# Altium footprint library IC.PcbLib: 13 footprints
Each footprint in its own frame and in the unit in brackets; x right, y up, seen from the top. Pads: shape width x height; smd on the part's side, far side on the other; paste and mask are expansions set on the pad; w line width, h text height; cw(c..) or ccw(c..) is an arc to the next point about the centre after c.
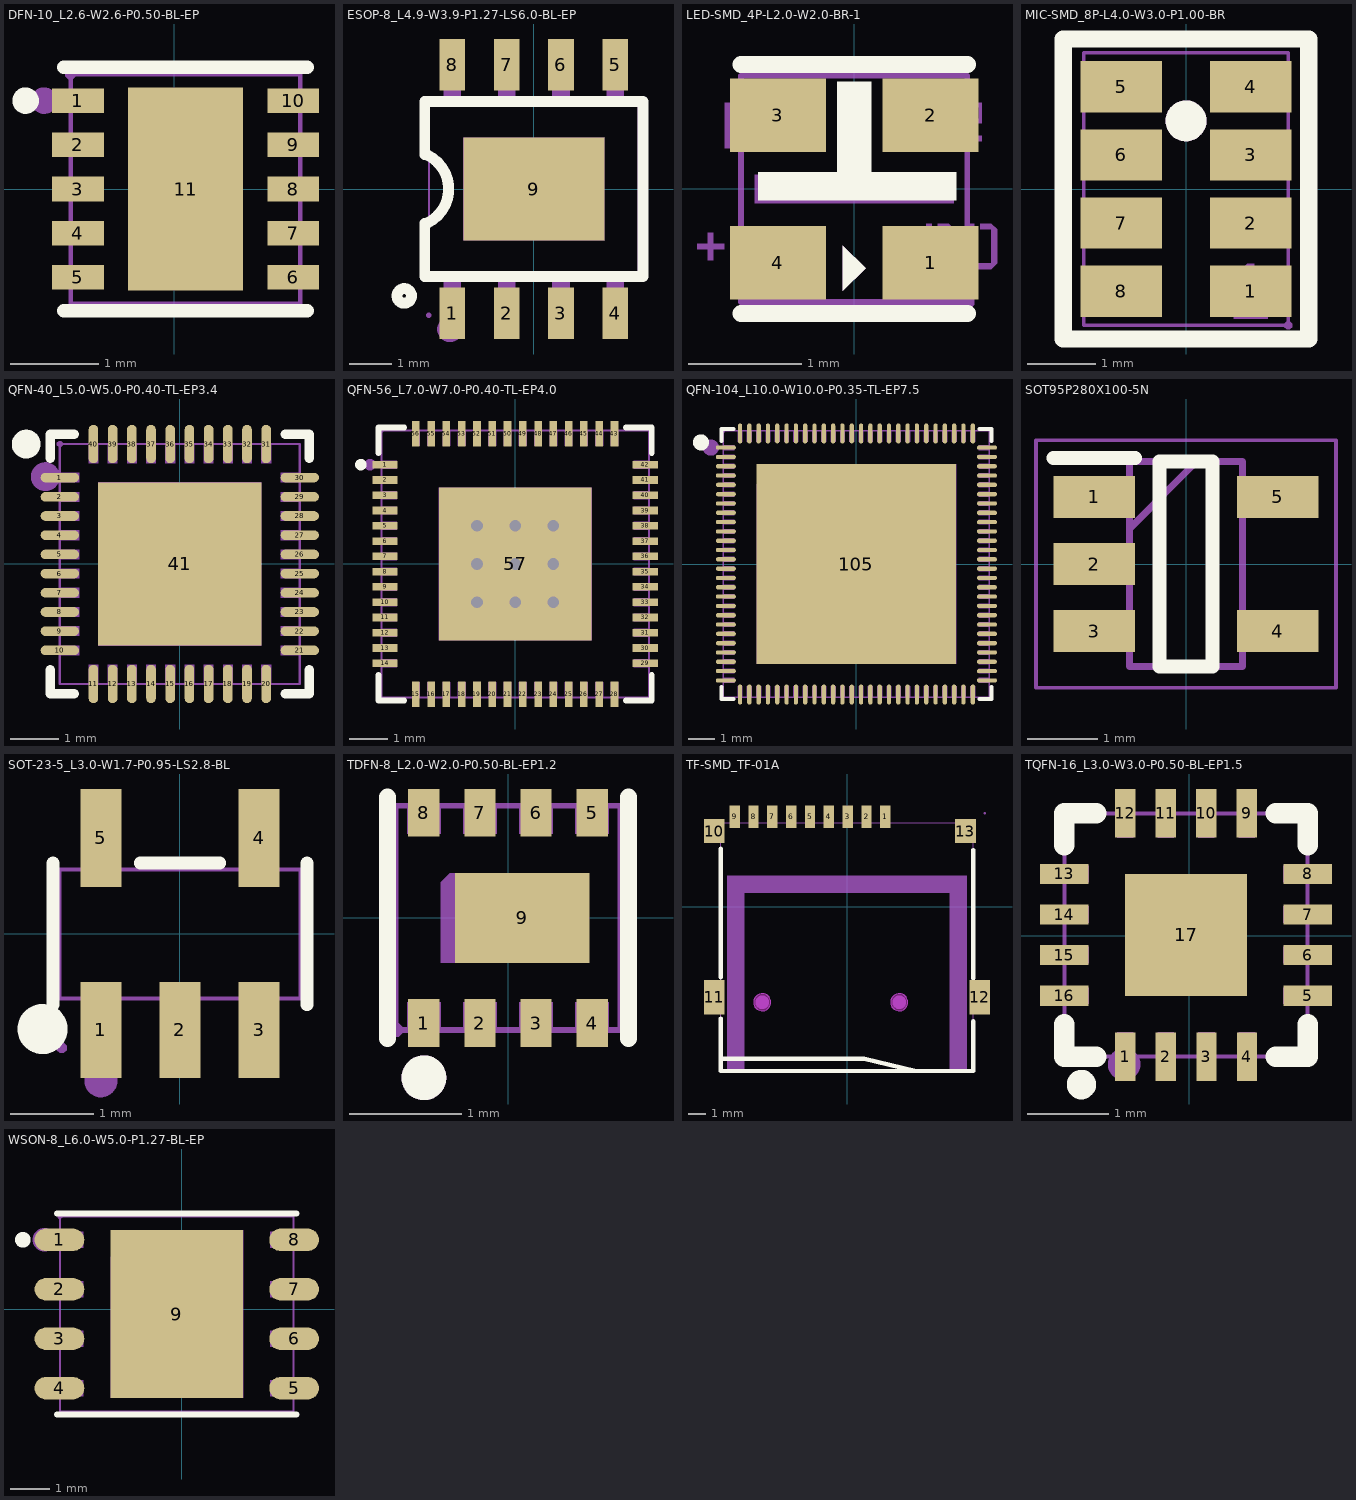
[diagram p0: the footprints below, top view; thin cyan lines are the x and y axes]

## DFN-10_L2.6-W2.6-P0.50-BL-EP [mm]
pads (11):
  rect 0.585x0.28 smd: 1(-1.09,1) 2(-1.09,0.5) 3(-1.09,0) 4(-1.09,-0.5) 5(-1.09,-1) 6(1.344,-1) 7(1.344,-0.5) 8(1.344,0) 9(1.344,0.5) 10(1.344,1)
  rect 1.3x2.3 smd: 11(0.127,0)
Top Overlay:
  circle w0.15: c-1.683,1 r0.075
  lines w0.152: -1.249,-1.376 1.503,-1.376 ; -1.249,1.376 1.503,1.376
Mechanical 6:
  circle w0.15: c-1.473,1 r0.075
Mechanical 15:
  region: -0.367,1.063 0.744,1.063 0.744,-1.063 -0.49,-1.063 -0.49,0.939
  region: 1.427,1.125 1.077,1.125 1.077,0.875 1.427,0.875
  region: 1.427,0.625 1.077,0.625 1.077,0.375 1.427,0.375
  region: 1.427,0.125 1.077,0.125 1.077,-0.125 1.427,-0.125
  region: 1.427,-0.375 1.077,-0.375 1.077,-0.625 1.427,-0.625
  region: 1.427,-0.875 1.077,-0.875 1.077,-1.125 1.427,-1.125
  region: -1.173,-0.875 -0.823,-0.875 -0.823,-1.125 -1.173,-1.125
  region: -1.173,-0.375 -0.823,-0.375 -0.823,-0.625 -1.173,-0.625
  region: -1.173,0.125 -0.823,0.125 -0.823,-0.125 -1.173,-0.125
  region: -1.173,0.625 -0.823,0.625 -0.823,0.375 -1.173,0.375
  region: -1.173,1.125 -0.823,1.125 -0.823,0.875 -1.173,0.875
  region: -1.173,1.24 -1.198,1.24 -1.233,1.275 -1.233,1.325 -1.198,1.36 -1.173,1.36 -1.148,1.36 -1.113,1.325 -1.113,1.275 -1.148,1.24 -1.173,1.24
  lines w0.051: -1.173,-1.3 -1.173,1.3 1.427,1.3 1.427,-1.3 -1.173,-1.3
3D body "PCF85063ATL_1,118.stp": height 0.5, standoff 0, extent -1.223,-1.3 1.477,1.3

## ESOP-8_L4.9-W3.9-P1.27-LS6.0-BL-EP [mm]
pads (9):
  rect 0.6x1.2 smd: 1(-1.905,-2.908) 2(-0.635,-2.908) 3(0.635,-2.908) 4(1.905,-2.908) 5(1.905,2.908) 6(0.635,2.908) 7(-0.635,2.908) 8(-1.905,2.908)
  rect 3.3x2.4 smd: 9(0,0)
Top Overlay:
  circle w0.254: c-3.03,-2.5 r0.17
  lines w0.254: -2.55,-0.8 -2.55,-2.05 2.55,-2.05 2.55,2.05 -2.55,2.05 -2.55,0.8 ; -2.5,-0.8 ccw(c-2.875,0) -2.5,0.8
Mechanical 6:
  circle w0.3: c-1.96,-3.28 r0.15
Mechanical 15:
  region: 1.65,-1.2 -1.65,-1.2 -1.65,1.2 1.65,1.2
  region: 1.705,-2.95 1.705,-2.3 2.105,-2.3 2.105,-2.95
  region: 1.705,-2.31 1.705,-1.94 2.105,-1.94 2.105,-2.31
  region: 0.435,-2.95 0.435,-2.3 0.835,-2.3 0.835,-2.95
  region: 0.435,-2.31 0.435,-1.94 0.835,-1.94 0.835,-2.31
  region: -0.835,-2.95 -0.835,-2.3 -0.435,-2.3 -0.435,-2.95
  region: -0.835,-2.31 -0.835,-1.94 -0.435,-1.94 -0.435,-2.31
  region: -2.105,-2.95 -2.105,-2.3 -1.705,-2.3 -1.705,-2.95
  region: -2.105,-2.31 -2.105,-1.94 -1.705,-1.94 -1.705,-2.31
  region: 1.705,2.3 1.705,2.95 2.105,2.95 2.105,2.3
  region: 1.705,1.94 1.705,2.31 2.105,2.31 2.105,1.94
  region: 0.435,2.3 0.435,2.95 0.835,2.95 0.835,2.3
  region: 0.435,1.94 0.435,2.31 0.835,2.31 0.835,1.94
  region: -0.835,2.3 -0.835,2.95 -0.435,2.95 -0.435,2.3
  region: -0.835,1.94 -0.835,2.31 -0.435,2.31 -0.435,1.94
  region: -2.105,2.3 -2.105,2.95 -1.705,2.95 -1.705,2.3
  region: -2.105,1.94 -2.105,2.31 -1.705,2.31 -1.705,1.94
  region: -2.394,-2.95 -2.394,-2.975 -2.429,-3.01 -2.479,-3.01 -2.514,-2.975 -2.514,-2.95 -2.514,-2.925 -2.479,-2.89 -2.429,-2.89 -2.394,-2.925 -2.394,-2.95
  lines w0.051: -2.45,-1.95 -2.45,1.95 2.45,1.95 2.45,-1.95 -2.45,-1.95
3D body "IP5306.STEP": height 1.65, standoff 0, extent -2.413,-3 2.487,3

## LED-SMD_4P-L2.0-W2.0-BR-1 [mm]
pads (4):
  rect 0.85x0.65 smd paste+0 mask+0.05: 1(0.675,-0.65) 2(0.675,0.65) 3(-0.675,0.65) 4(-0.675,-0.65)
Top Overlay:
  region: -0.15,0.15 -0.15,0.95 0.15,0.95 0.15,0.1 -0.15,0.1
  region: -0.85,0.15 -0.85,-0.1 0.9,-0.1 0.9,0.15
  region: -0.1,-0.5 -0.1,-0.9 0.1,-0.7
  lines w0.152: -1,-1.1 1,-1.1 ; -1,1.1 1,1.1
Mechanical 6:
  region: -0.1,-0.5 -0.1,-0.9 0.1,-0.7
  region: -0.127,0.056 0.127,0.056 0.127,0.945 -0.127,0.945
  region: 0.889,0.762 1.129,0.762 1.129,0.582 0.919,0.582 0.919,0.472 1.129,0.472 1.129,0.422 0.889,0.422 0.879,0.422 0.879,0.432 0.879,0.622 1.099,0.622 1.099,0.722 0.879,0.722 0.879,0.762
  region: 0.529,0.477 0.769,0.477 0.769,0.427 0.529,0.427
  region: -1.295,-0.628 -1.295,-0.388 -1.245,-0.388 -1.245,-0.628
  region: -1.39,-0.483 -1.15,-0.483 -1.15,-0.533 -1.39,-0.533
  region: -0.88,0.125 0.88,0.125 0.88,-0.125 -0.88,-0.125
  region: -1,-0.333 -1,-0.633 -0.85,-0.633 -0.85,-0.733 -0.8,-0.733 -0.8,-0.633 -0.7,-0.633 -0.7,-0.583 -0.8,-0.583 -0.8,-0.433 -0.85,-0.433 -0.85,-0.583 -0.95,-0.583 -0.95,-0.333
  region: 1.012,-0.308 0.962,-0.358 0.962,-0.658 1.012,-0.708 1.212,-0.708 1.262,-0.658 1.262,-0.358 1.212,-0.308 1.112,-0.308 1.112,-0.358 1.212,-0.358 1.212,-0.658 1.012,-0.658 1.012,-0.358 1.062,-0.358 1.062,-0.308
  region: 0.637,-0.308 0.637,-0.708 0.787,-0.708 0.837,-0.708 0.887,-0.658 0.887,-0.358 0.837,-0.308 0.737,-0.308 0.737,-0.358 0.837,-0.358 0.837,-0.658 0.687,-0.658 0.687,-0.308
  region: -1.143,0.762 -1.143,0.362 -0.993,0.362 -0.943,0.362 -0.893,0.412 -0.893,0.712 -0.943,0.762 -1.043,0.762 -1.043,0.712 -0.943,0.712 -0.943,0.412 -1.093,0.412 -1.093,0.762
  region: -0.768,0.362 -0.768,0.412 -0.718,0.412 -0.718,0.712 -0.768,0.712 -0.768,0.762 -0.618,0.762 -0.618,0.712 -0.668,0.712 -0.668,0.412 -0.618,0.412 -0.618,0.362
Mechanical 15:
  region: -0.3,-0.95 -1,-0.95 -1,-0.35 -0.3,-0.35
  region: -0.3,0.35 -1,0.35 -1,0.95 -0.3,0.95
  region: 1,0.35 0.3,0.35 0.3,0.95 1,0.95
  region: 1,-0.95 0.3,-0.95 0.3,-0.35 1,-0.35
  region: 1.06,-1 1.06,-1.025 1.025,-1.06 0.975,-1.06 0.94,-1.025 0.94,-1 0.94,-0.975 0.975,-0.94 1.025,-0.94 1.06,-0.975 1.06,-1
  lines w0.051: -1,-1 -1,1 1,1 1,-1 -1,-1
3D body "WS2812-0807.STEP": height 0.8, standoff -0.04, extent -1,-0.9 1,0.9

## MIC-SMD_8P-L4.0-W3.0-P1.00-BR [mm]
pads (8):
  rect 1.2x0.75 smd paste+0 mask+0.05: 1(0.95,-1.5) 2(0.95,-0.5) 3(0.95,0.5) 4(0.95,1.5) 5(-0.95,1.5) 6(-0.95,0.5) 7(-0.95,-0.5) 8(-0.95,-1.5)
Top Overlay:
  circle w0.3: c0,1 r0.15
  lines w0.254: -1.8,-2.2 1.8,-2.2 1.8,2.2 -1.8,2.2 -1.8,-2.2
Mechanical 6:
  circle w0.3: c0,1 r0.15
  region: 0.8,-1.3 0.7,-1.3 0.9,-1.1 1,-1.1 1,-1.8 1.2,-1.8 1.2,-1.9 0.7,-1.9 0.7,-1.8 0.9,-1.8 0.9,-1.3
Mechanical 15:
  region: 1.56,-2 1.56,-2.025 1.525,-2.06 1.475,-2.06 1.44,-2.025 1.44,-2 1.44,-1.975 1.475,-1.94 1.525,-1.94 1.56,-1.975 1.56,-2
  region: -0.5,-1.2 -1.4,-1.2 -1.4,-1.8 -0.5,-1.8
  region: -0.5,-0.2 -1.4,-0.2 -1.4,-0.8 -0.5,-0.8
  region: -0.5,0.8 -1.4,0.8 -1.4,0.2 -0.5,0.2
  region: -0.5,1.8 -1.4,1.8 -1.4,1.2 -0.5,1.2
  region: 1.4,1.8 0.5,1.8 0.5,1.2 1.4,1.2
  region: 1.4,0.8 0.5,0.8 0.5,0.2 1.4,0.2
  region: 1.4,-0.2 0.5,-0.2 0.5,-0.8 1.4,-0.8
  region: 1.4,-1.2 0.5,-1.2 0.5,-1.8 1.4,-1.8
  lines w0.051: -1.5,-2 -1.5,2 1.5,2 1.5,-2 -1.5,-2
3D body "MSM261S4030.STEP": height 0.97, standoff -0.05, extent -1.518,-2.024 1.482,1.976

## QFN-40_L5.0-W5.0-P0.40-TL-EP3.4 [mm]
pads (41):
  oval 0.8x0.2 smd paste-100 mask+0.05: 1(-2.5,1.8) 2(-2.5,1.4) 3(-2.5,1) 4(-2.5,0.6) 5(-2.5,0.2) 6(-2.5,-0.2) 7(-2.5,-0.6) 8(-2.5,-1) 9(-2.5,-1.4) 10(-2.5,-1.8) 21(2.5,-1.8) 22(2.5,-1.4) 23(2.5,-1) 24(2.5,-0.6) 25(2.5,-0.2) 26(2.5,0.2) 27(2.5,0.6) 28(2.5,1) 29(2.5,1.4) 30(2.5,1.8)
  oval 0.2x0.8 smd paste-100 mask+0.05: 11(-1.8,-2.5) 12(-1.4,-2.5) 13(-1,-2.5) 14(-0.6,-2.5) 15(-0.2,-2.5) 16(0.2,-2.5) 17(0.6,-2.5) 18(1,-2.5) 19(1.4,-2.5) 20(1.8,-2.5) 31(1.8,2.5) 32(1.4,2.5) 33(1,2.5) 34(0.6,2.5) 35(0.2,2.5) 36(-0.2,2.5) 37(-0.6,2.5) 38(-1,2.5) 39(-1.4,2.5) 40(-1.8,2.5)
  rect 3.4x3.4 smd paste-100 mask+0.05: 41(0,0)
Top Overlay:
  lines w0.2: -2.7,-2.2 -2.7,-2.7 -2.2,-2.7 ; -2.7,2.2 -2.7,2.7 -2.2,2.7 ; 2.2,-2.7 2.7,-2.7 2.7,-2.2 ; 2.2,2.7 2.7,2.7 2.7,2.2
  lines w0.3: -3.051,2.497 cw(c-3.201,2.498) -3.351,2.498 cw(c-3.201,2.498) -3.051,2.499
Top Paste:
  drawing of 41 lines, arcs and shapes, not listed
Mechanical 6:
  circle w0.3: c-2.802,1.82 r0.15
Mechanical 15:
  drawing of 46 lines, arcs and shapes, not listed
3D body: height 0.38, standoff 0, extent -2.54,-2.54 2.54,2.54

## QFN-56_L7.0-W7.0-P0.40-TL-EP4.0 [mm]
pads (57):
  rect 0.665x0.2 smd paste-100 mask+0.051: 1(-3.408,2.6) 2(-3.408,2.2) 3(-3.408,1.8) 4(-3.408,1.4) 5(-3.408,1) 6(-3.408,0.6) 7(-3.408,0.2) 8(-3.408,-0.2) 9(-3.408,-0.6) 10(-3.408,-1) 11(-3.408,-1.4) 12(-3.408,-1.8) 13(-3.408,-2.2) 14(-3.408,-2.6) 29(3.407,-2.6) 30(3.407,-2.2) 31(3.407,-1.8) 32(3.407,-1.4) 33(3.407,-1) 34(3.407,-0.6) 35(3.407,-0.2) 36(3.407,0.2) 37(3.407,0.6) 38(3.407,1) 39(3.407,1.4) 40(3.407,1.8) 41(3.407,2.2) 42(3.407,2.6)
  rect 0.2x0.665 smd paste-100 mask+0.051: 15(-2.6,-3.408) 16(-2.2,-3.408) 17(-1.8,-3.408) 18(-1.4,-3.408) 19(-1,-3.408) 20(-0.6,-3.408) 21(-0.2,-3.408) 22(0.2,-3.408) 23(0.6,-3.408) 24(1,-3.408) 25(1.4,-3.408) 26(1.8,-3.408) 27(2.2,-3.408) 28(2.6,-3.408) 43(2.6,3.407) 44(2.2,3.407) 45(1.8,3.407) 46(1.4,3.407) 47(1,3.407) 48(0.6,3.407) 49(0.2,3.407) 50(-0.2,3.407) 51(-0.6,3.407) 52(-1,3.407) 53(-1.4,3.407) 54(-1.8,3.407) 55(-2.2,3.407) 56(-2.6,3.407)
  rect 4x4 smd paste-100 mask+0.051: 57(0,0)
via 1,0 diameter 0.61 hole 0.305
via 1,1 diameter 0.61 hole 0.305
via -1,0 diameter 0.61 hole 0.305
via -1,1 diameter 0.61 hole 0.305
via 1,-1 diameter 0.61 hole 0.305
via -1,-1 diameter 0.61 hole 0.305
via 0,0 diameter 0.61 hole 0.305
via 0.001,-1 diameter 0.61 hole 0.305
via 0,1 diameter 0.61 hole 0.305
Top Overlay:
  circle w0.15: c-4.04,2.6 r0.075
  lines w0.152: -3.576,-2.903 -3.576,-3.576 -2.903,-3.576 ; -3.576,2.902 -3.576,3.576 -2.903,3.576 ; 2.902,-3.576 3.576,-3.576 3.576,-2.903 ; 2.902,3.576 3.576,3.576 3.576,2.902
Top Paste:
  drawing of 57 lines, arcs and shapes, not listed
Mechanical 6:
  circle w0.15: c-3.8,2.6 r0.075
Mechanical 15:
  drawing of 62 lines, arcs and shapes, not listed
3D body "ESP32-S3.stp": height 1.02, standoff 0, extent -3.5,-3.5 3.5,3.5

## QFN-104_L10.0-W10.0-P0.35-TL-EP7.5 [mm]
pads (105):
  oval 0.755x0.16 smd: 1(-4.908,4.375) 2(-4.908,4.025) 3(-4.908,3.675) 4(-4.908,3.325) 5(-4.908,2.975) 6(-4.908,2.625) 7(-4.908,2.275) 8(-4.908,1.925) 9(-4.908,1.575) 10(-4.908,1.225) 11(-4.908,0.875) 12(-4.908,0.525) 13(-4.908,0.175) 14(-4.908,-0.175) 15(-4.908,-0.525) 16(-4.908,-0.875) 17(-4.908,-1.225) 18(-4.908,-1.575) 19(-4.908,-1.925) 20(-4.908,-2.275) 21(-4.908,-2.625) 22(-4.908,-2.975) 23(-4.908,-3.325) 24(-4.908,-3.675) 25(-4.908,-4.025) 26(-4.908,-4.375) 53(4.908,-4.375) 54(4.908,-4.025) 55(4.908,-3.675) 56(4.908,-3.325) 57(4.908,-2.975) 58(4.908,-2.625) 59(4.908,-2.275) 60(4.908,-1.925) 61(4.908,-1.575) 62(4.908,-1.225) 63(4.908,-0.875) 64(4.908,-0.525) 65(4.908,-0.175) 66(4.908,0.175) 67(4.908,0.525) 68(4.908,0.875) 69(4.908,1.225) 70(4.908,1.575) 71(4.908,1.925) 72(4.908,2.275) 73(4.908,2.625) 74(4.908,2.975) 75(4.908,3.325) 76(4.908,3.675) 77(4.908,4.025) 78(4.908,4.375)
  oval 0.16x0.755 smd: 27(-4.375,-4.908) 28(-4.025,-4.908) 29(-3.675,-4.908) 30(-3.325,-4.908) 31(-2.975,-4.908) 32(-2.625,-4.908) 33(-2.275,-4.908) 34(-1.925,-4.908) 35(-1.575,-4.908) 36(-1.225,-4.908) 37(-0.875,-4.908) 38(-0.525,-4.908) 39(-0.175,-4.908) 40(0.175,-4.908) 41(0.525,-4.908) 42(0.875,-4.908) 43(1.225,-4.908) 44(1.575,-4.908) 45(1.925,-4.908) 46(2.275,-4.908) 47(2.625,-4.908) 48(2.975,-4.908) 49(3.325,-4.908) 50(3.675,-4.908) 51(4.025,-4.908) 52(4.375,-4.908) 79(4.375,4.908) 80(4.025,4.908) 81(3.675,4.908) 82(3.325,4.908) 83(2.975,4.908) 84(2.625,4.908) 85(2.275,4.908) 86(1.925,4.908) 87(1.575,4.908) 88(1.225,4.908) 89(0.875,4.908) 90(0.525,4.908) 91(0.175,4.908) 92(-0.175,4.908) 93(-0.525,4.908) 94(-0.875,4.908) 95(-1.225,4.908) 96(-1.575,4.908) 97(-1.925,4.908) 98(-2.275,4.908) 99(-2.625,4.908) 100(-2.975,4.908) 101(-3.325,4.908) 102(-3.675,4.908) 103(-4.025,4.908) 104(-4.375,4.908)
  rect 7.5x7.5 smd: 105(0,0)
Top Overlay:
  circle w0.3: c-5.842,4.572 r0.15
  lines w0.152: -5.076,-4.625 -5.076,-5.076 -4.625,-5.076 ; -5.076,4.625 -5.076,5.076 -4.625,5.076 ; 4.625,-5.076 5.076,-5.076 5.076,-4.625 ; 4.625,5.076 5.076,5.076 5.076,4.625
Mechanical 6:
  circle w0.3: c-5.471,4.375 r0.15
Mechanical 15:
  drawing of 110 lines, arcs and shapes, not listed
3D body "QFN-104_10x10mm_ESP32P4.step": height 0.76, standoff -0.03, extent -5.01,-5.01 5.01,5.01

## SOT95P280X100-5N [mm]
pads (5):
  rect 1.15x0.6 smd: 1(-1.3,0.95) 2(-1.3,0) 3(-1.3,-0.95) 4(1.3,-0.95) 5(1.3,0.95)
Top Overlay:
  lines w0.2: -1.875,1.5 -0.725,1.5 ; -0.375,-1.45 -0.375,1.45 0.375,1.45 0.375,-1.45 -0.375,-1.45
Mechanical 15:
  lines w0.1: -0.8,0.5 0.15,1.45 ; -0.8,-1.45 -0.8,1.45 0.8,1.45 0.8,-1.45 -0.8,-1.45
Mechanical 20:
  lines w0.05: -2.125,-1.75 -2.125,1.75 2.125,1.75 2.125,-1.75 -2.125,-1.75
3D body "MP3302DJ-LF-Z.stp": height 1, standoff 0, extent -1.403,-1.45 1.397,1.45

## SOT-23-5_L3.0-W1.7-P0.95-LS2.8-BL [mm]
pads (5):
  rect 0.49x1.157 smd: 1(-0.95,-1.154) 2(0,-1.154) 3(0.95,-1.154)
  rect 0.49x1.175 smd: 4(0.95,1.154) 5(-0.95,1.154)
Top Overlay:
  circle w0.3: c-1.651,-1.143 r0.15
  lines w0.152: -1.526,-0.851 -1.526,0.851 ; -0.476,0.851 0.476,0.851 ; 1.526,-0.851 1.526,0.851
Mechanical 6:
  circle w0.2: c-0.95,-1.763 r0.1
Mechanical 15:
  region: -1.36,-1.37 -1.36,-1.395 -1.395,-1.43 -1.445,-1.43 -1.48,-1.395 -1.48,-1.37 -1.48,-1.345 -1.445,-1.31 -1.395,-1.31 -1.36,-1.345 -1.36,-1.37
  region: -1.125,0.74 -1.125,1.01 -0.775,1.01 -0.775,0.74
  region: -1.125,1 -1.125,1.4 -0.775,1.4 -0.775,1
  region: 0.775,0.74 0.775,1.01 1.125,1.01 1.125,0.74
  region: 0.775,1 0.775,1.4 1.125,1.4 1.125,1
  region: 0.775,-1.01 0.775,-0.74 1.125,-0.74 1.125,-1.01
  region: 0.775,-1.4 0.775,-1 1.125,-1 1.125,-1.4
  region: -0.175,-1.01 -0.175,-0.74 0.175,-0.74 0.175,-1.01
  region: -0.175,-1.4 -0.175,-1 0.175,-1 0.175,-1.4
  region: -1.125,-1.01 -1.125,-0.74 -0.775,-0.74 -0.775,-1.01
  region: -1.125,-1.4 -1.125,-1 -0.775,-1 -0.775,-1.4
  lines w0.051: -1.45,-0.775 1.45,-0.775 1.45,0.775 -1.45,0.775 -1.45,-0.775
3D body "TLV62569DBVT.stp": height 1.2, standoff 0, extent -1.45,-1.4 1.45,1.4

## TDFN-8_L2.0-W2.0-P0.50-BL-EP1.2 [mm]
pads (9):
  rect 0.28x0.425 smd: 1(-0.75,-0.938) 2(-0.25,-0.938) 3(0.25,-0.938) 4(0.75,-0.938) 5(0.75,0.938) 6(0.25,0.938) 7(-0.25,0.938) 8(-0.75,0.938)
  rect 1.2x0.8 smd: 9(0.127,0)
Top Overlay:
  circle w0.2: c-0.75,-1.426 r0.1
  lines w0.152: -1.076,-1.076 -1.076,0.573 ; -1.076,-0.573 -1.076,1.076 ; 1.076,-1.076 1.076,0.573 ; 1.076,-0.573 1.076,1.076
Mechanical 6:
  circle w0.2: c-0.75,-1.426 r0.1
Mechanical 15:
  region: -0.52,0.4 0.6,0.4 0.6,-0.4 -0.6,-0.4 -0.6,0.32
  region: -0.9,1 -0.6,1 -0.6,0.75 -0.9,0.75
  region: -0.4,1 -0.1,1 -0.1,0.75 -0.4,0.75
  region: 0.1,1 0.4,1 0.4,0.75 0.1,0.75
  region: 0.6,1 0.9,1 0.9,0.75 0.6,0.75
  region: 0.6,-1 0.9,-1 0.9,-0.75 0.6,-0.75
  region: 0.1,-1 0.4,-1 0.4,-0.75 0.1,-0.75
  region: -0.4,-1 -0.1,-1 -0.1,-0.75 -0.4,-0.75
  region: -0.9,-1 -0.6,-1 -0.6,-0.75 -0.9,-0.75
  region: -0.94,-1 -0.94,-1.025 -0.975,-1.06 -1.025,-1.06 -1.06,-1.025 -1.06,-1 -1.06,-0.975 -1.025,-0.94 -0.975,-0.94 -0.94,-0.975 -0.94,-1
  lines w0.051: -1,-1 -1,1 1,1 1,-1 -1,-1
3D body "MAX17048G+T10.stp": height 0.8, standoff 0, extent -1,-1.05 1,1.05

## TF-SMD_TF-01A [mm]
pads (13):
  rect 0.6x1.3 smd: 1(2.24,5.276) 2(1.14,5.276) 3(0.04,5.276) 4(-1.06,5.276) 5(-2.16,5.276) 6(-3.26,5.276) 7(-4.36,5.276) 8(-5.46,5.276) 9(-6.56,5.276)
  rect 1.2x1.4 smd: 10(-7.76,4.426) 13(6.92,4.426)
  rect 1.2x2 smd: 11(-7.76,-5.276) 12(7.76,-5.276)
Top Overlay:
  lines w0.254: -7.366,-9.091 -7.366,-8.866 1,-8.866 3.937,-9.563 ; -7.366,-6.516 -7.366,-9.576 7.366,-9.576 7.366,-6.666 ; -7.366,-4.103 -7.366,3.406 ; 7.366,-4.167 7.366,3.326
Keep-Out Layer:
  board cut-out: 3.55,-5.566 3.55,-5.666 3.474,-5.849 3.333,-5.99 3.149,-6.066 2.951,-6.066 2.767,-5.99 2.626,-5.849 2.55,-5.666 2.55,-5.566 2.55,-5.467 2.626,-5.283 2.767,-5.142 2.951,-5.066 3.149,-5.066 3.333,-5.142 3.474,-5.283 3.55,-5.467 3.55,-5.566
  board cut-out: -4.45,-5.566 -4.45,-5.666 -4.526,-5.849 -4.667,-5.99 -4.85,-6.066 -5.049,-6.066 -5.233,-5.99 -5.374,-5.849 -5.45,-5.666 -5.45,-5.566 -5.45,-5.467 -5.374,-5.283 -5.233,-5.142 -5.049,-5.066 -4.85,-5.066 -4.667,-5.142 -4.526,-5.283 -4.45,-5.467 -4.45,-5.566
Keep-Out Layer:
  circle w0.025: c3.05,-5.566 r0.5
  circle w0.025: c-4.95,-5.566 r0.5
  region: 3.55,-5.566 3.55,-5.666 3.474,-5.849 3.333,-5.99 3.149,-6.066 2.951,-6.066 2.767,-5.99 2.626,-5.849 2.55,-5.666 2.55,-5.566 2.55,-5.467 2.626,-5.283 2.767,-5.142 2.951,-5.066 3.149,-5.066 3.333,-5.142 3.474,-5.283 3.55,-5.467 3.55,-5.566
  region: -4.45,-5.566 -4.45,-5.666 -4.526,-5.849 -4.667,-5.99 -4.85,-6.066 -5.049,-6.066 -5.233,-5.99 -5.374,-5.849 -5.45,-5.666 -5.45,-5.566 -5.45,-5.467 -5.374,-5.283 -5.233,-5.142 -5.049,-5.066 -4.85,-5.066 -4.667,-5.142 -4.526,-5.283 -4.45,-5.467 -4.45,-5.566
Mechanical 1:
  circle w0.025: c3.05,-5.566 r0.5
  circle w0.025: c-4.95,-5.566 r0.5
Mechanical 6:
  circle w0.4: c-4.95,-5.566 r0.2
  circle w0.4: c3.05,-5.566 r0.2
  region: -6,1.834 6,1.834 6,0.834 -6,0.834
  region: 7,-9.666 7,1.834 6,1.834 6,-9.666
  region: -7,-9.666 -7,1.834 -6,1.834 -6,-9.666
Mechanical 15:
  region: -6.745,4.924 -6.745,5.474 -6.375,5.474 -6.375,4.924
  region: 6.66,4.926 7.31,4.926 7.31,3.926 6.66,3.926
  region: -8.05,-4.476 -7.35,-4.476 -7.35,-6.076 -8.05,-6.076
  region: 7.35,-6.076 7.35,-4.476 8.05,-4.476 8.05,-6.076
  region: -7.95,3.926 -7.95,4.926 -7.25,4.926 -7.25,3.926
  region: -5.645,4.924 -5.645,5.474 -5.275,5.474 -5.275,4.924
  region: -4.545,4.924 -4.545,5.474 -4.175,5.474 -4.175,4.924
  region: -3.445,4.924 -3.445,5.474 -3.075,5.474 -3.075,4.924
  region: -2.345,4.924 -2.345,5.474 -1.975,5.474 -1.975,4.924
  region: -1.245,4.924 -1.245,5.474 -0.875,5.474 -0.875,4.924
  region: -0.145,4.924 -0.145,5.474 0.225,5.474 0.225,4.924
  region: 0.955,4.924 0.955,5.474 1.325,5.474 1.325,4.924
  region: 2.055,4.924 2.055,5.474 2.425,5.474 2.425,4.924
  region: 8.11,5.474 8.11,5.449 8.075,5.414 8.025,5.414 7.99,5.449 7.99,5.474 7.99,5.499 8.025,5.534 8.075,5.534 8.11,5.499 8.11,5.474
  lines w0.051: -7.38,-9.575 7.38,-9.575 7.38,4.925 -7.38,4.925 -7.38,-9.575
3D body "micro SD card slot.step": height 1.92, standoff -0.49, extent -8.001,-9.778 7.975,5.714

## TQFN-16_L3.0-W3.0-P0.50-BL-EP1.5 [mm]
pads (17):
  rect 0.25x0.6 smd paste-100 mask+0.051: 1(-0.791,-1.488) 2(-0.292,-1.488) 3(0.209,-1.488) 4(0.708,-1.488) 9(0.707,1.512) 10(0.207,1.512) 11(-0.293,1.512) 12(-0.791,1.512)
  rect 0.6x0.25 smd paste-100 mask+0.051: 5(1.457,-0.736) 6(1.457,-0.236) 7(1.457,0.264) 8(1.457,0.764) 13(-1.543,0.764) 14(-1.543,0.264) 15(-1.543,-0.236) 16(-1.543,-0.736)
  rect 1.5x1.5 smd paste-100 mask+0.051: 17(-0.043,0.012)
Top Overlay:
  circle w0.254: c-1.332,-1.832 r0.054
  lines w0.254: -1.543,-1.092 -1.543,-1.488 -1.148,-1.488 ; -1.543,1.121 -1.543,1.512 -1.148,1.512 ; 1.063,1.512 1.457,1.512 1.457,1.121 ; 1.065,-1.488 1.457,-1.488 1.457,-1.092
Top Paste:
  region: -1.843,-0.861 -1.843,-0.611 -1.243,-0.611 -1.243,-0.861
  region: -1.843,-0.361 -1.843,-0.111 -1.243,-0.111 -1.243,-0.361
  region: -1.843,0.139 -1.843,0.389 -1.243,0.389 -1.243,0.139
  region: -1.843,0.639 -1.843,0.889 -1.243,0.889 -1.243,0.639
  region: -0.916,1.812 -0.666,1.812 -0.666,1.212 -0.916,1.212
  region: -0.418,1.812 -0.168,1.812 -0.168,1.212 -0.418,1.212
  region: 0.082,1.812 0.332,1.812 0.332,1.212 0.082,1.212
  region: 0.582,1.812 0.832,1.812 0.832,1.212 0.582,1.212
  region: 1.757,0.889 1.757,0.639 1.157,0.639 1.157,0.889
  region: 1.757,0.389 1.757,0.139 1.157,0.139 1.157,0.389
  region: 1.757,-0.111 1.757,-0.361 1.157,-0.361 1.157,-0.111
  region: 1.757,-0.611 1.757,-0.861 1.157,-0.861 1.157,-0.611
  region: 0.834,-1.788 0.584,-1.788 0.584,-1.188 0.834,-1.188
  region: 0.334,-1.788 0.084,-1.788 0.084,-1.188 0.334,-1.188
  region: -0.166,-1.788 -0.416,-1.788 -0.416,-1.188 -0.166,-1.188
  region: -0.666,-1.788 -0.916,-1.788 -0.916,-1.188 -0.666,-1.188
  region: -0.643,-0.588 -0.643,0.612 0.557,0.612 0.557,-0.588
Mechanical 6:
  circle w0.2: c-0.805,-1.583 r0.1
Mechanical 15:
  region: -0.691,-1.488 -0.891,-1.488 -0.891,-1.188 -0.691,-1.188
  region: -0.192,-1.488 -0.392,-1.488 -0.392,-1.188 -0.192,-1.188
  region: 0.309,-1.488 0.109,-1.488 0.109,-1.188 0.309,-1.188
  region: 0.808,-1.488 0.608,-1.488 0.608,-1.188 0.808,-1.188
  region: 1.157,-0.836 1.157,-0.636 1.457,-0.636 1.457,-0.836
  region: 1.157,-0.336 1.157,-0.136 1.457,-0.136 1.457,-0.336
  region: 1.157,0.164 1.157,0.364 1.457,0.364 1.457,0.164
  region: 1.157,0.664 1.157,0.864 1.457,0.864 1.457,0.664
  region: 0.607,1.512 0.807,1.512 0.807,1.212 0.607,1.212
  region: 0.107,1.512 0.307,1.512 0.307,1.212 0.107,1.212
  region: -0.393,1.512 -0.193,1.512 -0.193,1.212 -0.393,1.212
  region: -0.891,1.512 -0.691,1.512 -0.691,1.212 -0.891,1.212
  region: -1.243,0.864 -1.243,0.664 -1.543,0.664 -1.543,0.864
  region: -1.243,0.364 -1.243,0.164 -1.543,0.164 -1.543,0.364
  region: -1.243,-0.136 -1.243,-0.336 -1.543,-0.336 -1.543,-0.136
  region: -1.243,-0.636 -1.243,-0.836 -1.543,-0.836 -1.543,-0.636
  region: -0.793,-0.738 -0.793,0.762 0.707,0.762 0.707,-0.738
  region: -1.483,-1.488 -1.483,-1.513 -1.518,-1.548 -1.568,-1.548 -1.603,-1.513 -1.603,-1.488 -1.603,-1.463 -1.568,-1.428 -1.518,-1.428 -1.483,-1.463 -1.483,-1.488
  lines w0.051: -1.543,-1.488 1.457,-1.488 1.457,1.512 -1.543,1.512 -1.543,-1.488
3D body "MAX98357AETE+T.stp": height 0.8, standoff 0, extent -1.556,-1.547 1.544,1.553

## WSON-8_L6.0-W5.0-P1.27-BL-EP [mil]
pads (9):
  oval 50.22x22.87 smd: 1(-123.61,70) 2(-123.61,20) 3(-123.61,-30) 4(-123.61,-80) 5(113.61,-80) 6(113.61,-30) 7(113.61,20) 8(113.61,70)
  rect 133.86x169.29 smd: 9(-5,-5)
Top Overlay:
  circle w7.87: c-160.53,70 r3.94
  lines w6: -126.11,-106.42 116.11,-106.42 ; -126.11,96.42 116.11,96.42
Mechanical 6:
  circle w11.81: c-138.86,70 r5.91
Mechanical 15:
  region: -45.16,79.65 61.93,79.65 61.93,-89.65 -71.93,-89.65 -71.93,52.87
  region: 113.11,-71.83 89.49,-71.83 89.49,-88.17 113.11,-88.17
  region: 113.11,-21.83 89.49,-21.83 89.49,-38.17 113.11,-38.17
  region: 113.11,28.17 89.49,28.17 89.49,11.83 113.11,11.83
  region: 113.11,78.17 89.49,78.17 89.49,61.83 113.11,61.83
  region: -123.11,-71.83 -99.49,-71.83 -99.49,-88.17 -123.11,-88.17
  region: -123.11,-21.83 -99.49,-21.83 -99.49,-38.17 -123.11,-38.17
  region: -123.11,28.17 -99.49,28.17 -99.49,11.83 -123.11,11.83
  region: -123.11,78.17 -99.49,78.17 -99.49,61.83 -123.11,61.83
  region: -123.11,91.06 -124.09,91.06 -125.47,92.44 -125.47,94.4 -124.09,95.78 -123.11,95.78 -122.13,95.78 -120.75,94.4 -120.75,92.44 -122.13,91.06 -123.11,91.06
  lines w2: -123.11,-103.42 -123.11,93.42 113.11,93.42 113.11,-103.42 -123.11,-103.42
3D body "W25Q16JVZPIQ_TR.stp": height 31.5, standoff 0, extent -124.35,-103.72 115.81,93.13